# Altium footprint library PcbLib1.PcbLib: 29 footprints (part 2 of 2)
Each footprint in its own frame and in the unit in brackets; x right, y up, seen from the top. Pads: shape width x height; smd on the part's side, far side on the other; paste and mask are expansions set on the pad; w line width, h text height; cw(c..) or ccw(c..) is an arc to the next point about the centre after c.
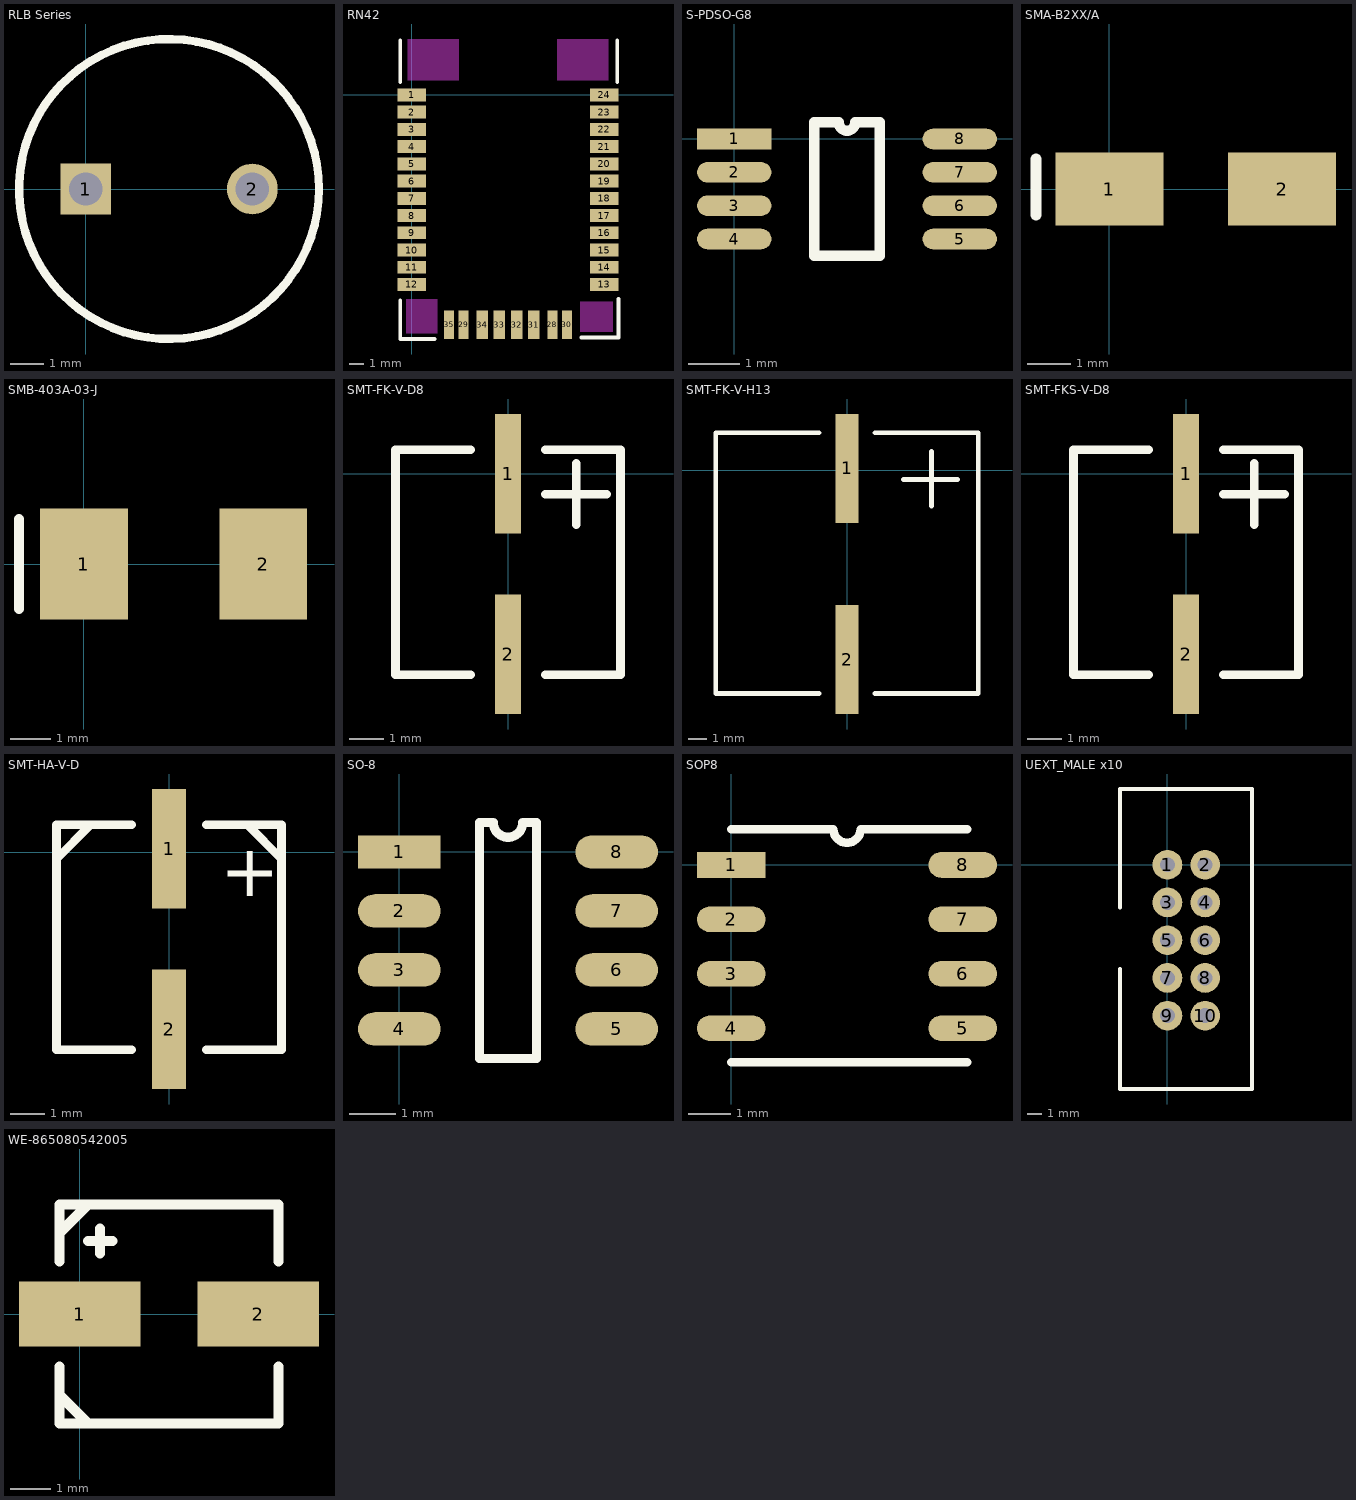
[diagram p1: the footprints below, top view; thin cyan lines are the x and y axes]

## RLB Series [mil]
pads (2):
  rect 60x60 hole 39.37: 1(0,0)
  round 60 hole 39.37: 2(196.85,0)
Top Overlay:
  circle w10: c98.43,0 r177.17

## RN42 [mm]
pads (32):
  rect 2x0.9 smd: 1(0,0) 2(0,-1.2) 3(0,-2.4) 4(0,-3.6) 5(0,-4.8) 6(0,-6) 7(0,-7.2) 8(0,-8.4) 9(0,-9.6) 10(0,-10.8) 11(0,-12) 12(0,-13.2) 13(13.4,-13.2) 14(13.4,-12) 15(13.4,-10.8) 16(13.4,-9.6) 17(13.4,-8.4) 18(13.4,-7.2) 19(13.4,-6) 20(13.4,-4.8) 21(13.4,-3.6) 22(13.4,-2.4) 23(13.4,-1.2) 24(13.4,0)
  rect 0.7x2 smd: 28(9.8,-16) 29(3.6,-16) 30(10.8,-16) 35(2.6,-16)
  rect 0.8x2 smd: 31(8.5,-16) 32(7.3,-16) 33(6.1,-16) 34(4.9,-16)
Top Overlay:
  lines w0.254: -0.8,-14.3 -0.8,-16.9 -0.8,-17 1.6,-17 ; -0.8,0.9 -0.8,3.8 ; 11.8,-16.9 14.4,-16.9 14.4,-14.2 ; 14.3,0.9 14.3,3.8
Keep-Out Layer:
  rectangle: -0.4,-16.6 1.8,-14.2
  rectangle: 11.7,-16.5 14,-14.4
  rectangle: -0.3,1 3.3,3.9
  rectangle: 10.1,1 13.7,3.9

## S-PDSO-G8 [mm] "LM3488"
pads (8):
  rect 1.45x0.4 smd: 1(0,0)
  oval 1.45x0.4 smd: 2(0,-0.65) 3(0,-1.3) 4(0,-1.95) 5(4.4,-1.95) 6(4.4,-1.3) 7(4.4,-0.65) 8(4.4,0)
Top Overlay:
  lines w0.2: 1.56,-2.275 1.56,0.325 2.037,0.325 ccw(c2.2,0.325) 2.362,0.325 2.84,0.325 2.84,-2.275 1.56,-2.275

## SMA-B2XX/A [mm] "B240A-13-F"
pads (2):
  rect 2.5x1.7 smd: 1(0,0) 2(4,0)
Top Overlay:
  lines w0.254: -1.7,-0.6 -1.7,0.7

## SMB-403A-03-J [mil] "MBRS130LT3G"
pads (2):
  rect 85x107.99 smd: 1(0,0) 2(174.02,0)
Top Overlay:
  lines w10: -62.99,-43.31 -62.99,43.31

## SMT-FK-V-D8 [mm]
pads (2):
  rect 0.75x3.5 smd: 1(0,0) 2(0,-5.3)
Top Overlay:
  lines w0.254: -1.1,-5.9 -3.3,-5.9 -3.3,0.7 -1.1,0.7 ; 1.1,-5.9 3.3,-5.9 3.3,0.7 1.1,0.7 ; 1.1,-0.6 2.9,-0.6 ; 2,-1.5 2,0.3

## SMT-FK-V-H13 [mm]
pads (2):
  rect 1.2x5.8 smd: 1(0,0.1) 2(0,-10.1)
Top Overlay:
  lines w0.254: -1.5,-11.9 -7,-11.9 -7,2 -1.5,2 ; 1.5,-11.9 7,-11.9 7,2 1.5,2 ; 3,-0.5 5.9,-0.5 ; 4.5,-1.9 4.5,1

## SMT-FKS-V-D8 [mm]
pads (2):
  rect 0.75x3.5 smd: 1(0,0) 2(0,-5.3)
Top Overlay:
  lines w0.254: -1.1,-5.9 -3.3,-5.9 -3.3,0.7 -1.1,0.7 ; 1.1,-5.9 3.3,-5.9 3.3,0.7 1.1,0.7 ; 1.1,-0.6 2.9,-0.6 ; 2,-1.5 2,0.3

## SMT-HA-V-D [mm] "EEEHA1A101WP"
pads (2):
  rect 1x3.5 smd: 1(0,0.1) 2(0,-5.2)
Top Overlay:
  lines w0.254: -3.3,-0.2 -2.3,0.8 ; -1.1,-5.8 -3.3,-5.8 -3.3,0.8 -1.1,0.8 ; 1.1,-5.8 3.3,-5.8 3.3,0.8 1.1,0.8 ; 2,0.8 2.2,0.8 2.3,0.8 3.3,-0.2
  text "+" at 1.5,-1.3 h1.52

## SO-8 [mm] "IRF7807"
pads (8):
  rect 1.78x0.72 smd: 1(0,0)
  oval 1.78x0.72 smd: 2(0,-1.27) 3(0,-2.54) 4(0,-3.81) 5(4.68,-3.81) 6(4.68,-2.54) 7(4.68,-1.27) 8(4.68,0)
Top Overlay:
  lines w0.2: 1.725,-4.445 1.725,0.635 2.023,0.635 ccw(c2.34,0.635) 2.658,0.635 2.955,0.635 2.955,-4.445 1.725,-4.445

## SOP8 [mm]
pads (8):
  rect 1.6x0.6 smd: 1(0,0)
  oval 1.6x0.6 smd: 2(0,-1.27) 3(0,-2.54) 4(0,-3.81) 5(5.4,-3.81) 6(5.4,-2.54) 7(5.4,-1.27) 8(5.4,0)
Top Overlay:
  lines w0.2: 0,-4.6 5.5,-4.6 ; 0,0.835 2.382,0.835 ccw(c2.7,0.835) 3.017,0.835 5.5,0.835

## UEXT_MALE x10 [mm]
pads (10):
  round 2 hole 1: 1(0,0) 2(2.54,0) 3(0,-2.54) 4(2.54,-2.54) 5(0,-5.08) 6(2.54,-5.08) 7(0,-7.62) 8(2.54,-7.62) 9(0,-10.16) 10(2.54,-10.16)
Top Overlay:
  lines w0.254: -3.2,-15.1 5.7,-15.1 5.7,5.1 -3.2,5.1 -3.2,-2.9 ; -3.2,-15 -3.2,-7

## WE-865080542005 [mm]
pads (2):
  rect 3x1.6 smd: 1(0,0) 2(4.4,0)
Top Overlay:
  lines w0.254: -0.5,-2 0.2,-2.7 ; -0.5,-1.3 -0.5,-2.7 4.9,-2.7 4.9,-1.3 ; -0.5,1.3 -0.5,2.7 4.9,2.7 4.9,1.3 ; -0.5,2 0.2,2.7 ; 0.2,1.8 0.8,1.8 ; 0.5,1.5 0.5,2.1